# EAGLE library part 7-SEGMENT-4DIGIT-COUNTER (library SparkFun-Displays)
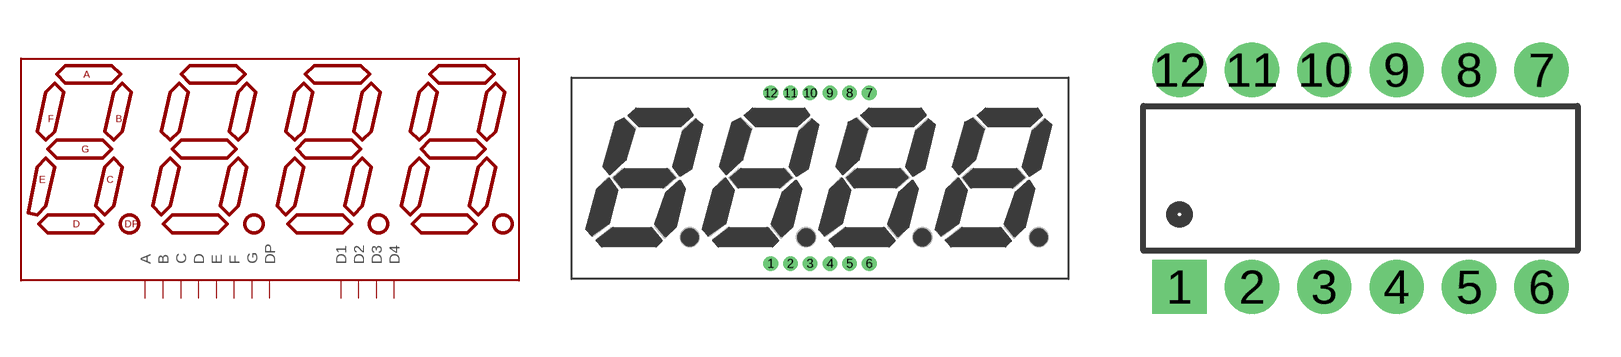
[diagram p11: symbol with the pads of 7-SEGMENT-4DIGIT-COUNTER; footprints 7-SEGMENT-4DIGIT-COUNTER, DIL12]

Designator prefix DISP

## 7-SEGMENT-4DIGIT-COUNTERPTH  [7-SEGMENT-4DIGIT-COUNTER]
1  E
2  D
3  DP
4  C
5  G
6  D4
7  B
8  D3
9  D2
10  F
11  A
12  D1

## 7-SEGMENT-4DIGIT-COUNTER-HP-BUBBLE (STOREFRONT: COM-12710)  [DIL12]
1  D1
2  E
3  C
4  D3
5  DP
6  D4
7  G
8  D
9  F
10  D2
11  B
12  A

## Footprint 7-SEGMENT-4DIGIT-COUNTER (pad centres in mm)
drill 0.9 pad 1.88: 1 -6.35,-10.998; 2 -3.81,-10.998; 3 -1.27,-10.998; 4 1.27,-10.998; 5 3.81,-10.998; 6 6.35,-10.998; 7 6.35,10.998; 8 3.81,10.998; 9 1.27,10.998; 10 -1.27,10.998; 11 -3.81,10.998; 12 -6.35,10.998

## Footprint DIL12 (pad centres in mm)
drill 0.864 pad 1.905 square: 1 -6.35,-3.81
drill 0.864 pad 1.905: 2 -3.81,-3.81; 3 -1.27,-3.81; 4 1.27,-3.81; 5 3.81,-3.81; 6 6.35,-3.81; 7 6.35,3.81; 8 3.81,3.81; 9 1.27,3.81; 10 -1.27,3.81; 11 -3.81,3.81; 12 -6.35,3.81